# Altium schematic symbol library WE-HEPA.SchLib: 16 symbols
Pins are listed as number, name and electrical type; pins without a type are passive.

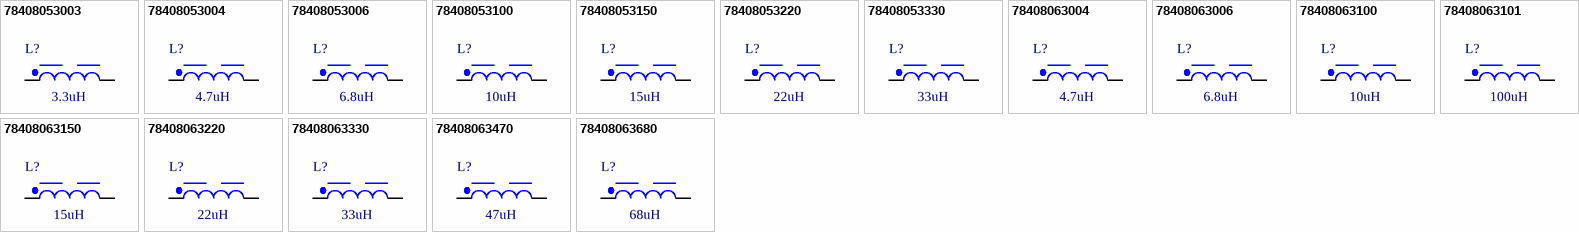
[diagram p0: symbols 78408053003 to 78408063680]

## 78408053003
designator L?, comment 3.3uH
WE-HEPA High Efficiency Power Choke, SMT, size 5030, 3.3uH, 2A; Manufacturer Part Number: 78408053003; Manufacturer: Wurth Elektronik; Case/Size Code: 5030; DC Resistance Max: 75mOhm; Inductance Tolerance: +/-25%; Saturation Current: 2.3A; Self Resonant Frequency: 100MHz; Category: Power Inductors; Match Code: WE-HEPA; ComponentLink1Description: Website Link; ComponentLink1URL: https://www.we-online.com/redexpert/article/78408053003?ad; ComponentLink2Description: Datasheet Link; ComponentLink2URL: https://www.we-online.com/redexpert/spec/78408053003?ad; Mount: Surface Mount; Operating Temperature Max: 150°C; Operating Temperature Min: -40°C; Packaging: Tape and Reel; Length: 4.9mm; Width: 4.9mm; Height: 2.85mm; Inductance: 3.3uH; Rated Current: 2A
footprint WE-HEPA_5030
simulation model 5030_78408053003_3.3u
pins: 1, 2

## 78408053004
designator L?, comment 4.7uH
WE-HEPA High Efficiency Power Choke, SMT, size 5030, 4.7uH, 1.4A; Manufacturer Part Number: 78408053004; Manufacturer: Wurth Elektronik; Case/Size Code: 5030; DC Resistance Max: 100mOhm; Inductance Tolerance: +/-20%; Saturation Current: 2.1A; Self Resonant Frequency: 85MHz; Category: Power Inductors; Match Code: WE-HEPA; ComponentLink1Description: Website Link; ComponentLink1URL: https://www.we-online.com/redexpert/article/78408053004?ad; ComponentLink2Description: Datasheet Link; ComponentLink2URL: https://www.we-online.com/redexpert/spec/78408053004?ad; Mount: Surface Mount; Operating Temperature Max: 150°C; Operating Temperature Min: -40°C; Packaging: Tape and Reel; Length: 4.9mm; Width: 4.9mm; Height: 2.85mm; Inductance: 4.7uH; Rated Current: 1.4A
footprint WE-HEPA_5030
simulation model 5030_78408053004_4.7u
pins: 1, 2

## 78408053006
designator L?, comment 6.8uH
WE-HEPA High Efficiency Power Choke, SMT, size 5030, 6.8uH, 1.3A; Manufacturer Part Number: 78408053006; Manufacturer: Wurth Elektronik; Case/Size Code: 5030; DC Resistance Max: 125mOhm; Inductance Tolerance: +/-20%; Saturation Current: 2A; Self Resonant Frequency: 60MHz; Category: Power Inductors; Match Code: WE-HEPA; ComponentLink1Description: Website Link; ComponentLink1URL: https://www.we-online.com/redexpert/article/78408053006?ad; ComponentLink2Description: Datasheet Link; ComponentLink2URL: https://www.we-online.com/redexpert/spec/78408053006?ad; Mount: Surface Mount; Operating Temperature Max: 150°C; Operating Temperature Min: -40°C; Packaging: Tape and Reel; Length: 4.9mm; Width: 4.9mm; Height: 2.85mm; Inductance: 6.8uH; Rated Current: 1.3A
footprint WE-HEPA_5030
simulation model 5030_78408053006_6.8u
pins: 1, 2

## 78408053100
designator L?, comment 10uH
WE-HEPA High Efficiency Power Choke, SMT, size 5030, 10uH, 1.2A; Manufacturer Part Number: 78408053100; Manufacturer: Wurth Elektronik; Case/Size Code: 5030; DC Resistance Max: 140mOhm; Inductance Tolerance: +/-20%; Saturation Current: 1.3A; Self Resonant Frequency: 37MHz; Category: Power Inductors; Match Code: WE-HEPA; ComponentLink1Description: Website Link; ComponentLink1URL: https://www.we-online.com/redexpert/article/78408053100?ad; ComponentLink2Description: Datasheet Link; ComponentLink2URL: https://www.we-online.com/redexpert/spec/78408053100?ad; Mount: Surface Mount; Operating Temperature Max: 150°C; Operating Temperature Min: -40°C; Packaging: Tape and Reel; Length: 4.9mm; Width: 4.9mm; Height: 2.85mm; Inductance: 10uH; Rated Current: 1.2A
footprint WE-HEPA_5030
simulation model 5030_78408053100_10u
pins: 1, 2

## 78408053150
designator L?, comment 15uH
WE-HEPA High Efficiency Power Choke, SMT, size 5030, 15uH, 1.1A; Manufacturer Part Number: 78408053150; Manufacturer: Wurth Elektronik; Case/Size Code: 5030; DC Resistance Max: 200mOhm; Inductance Tolerance: +/-20%; Saturation Current: 1.2A; Self Resonant Frequency: 22MHz; Category: Power Inductors; Match Code: WE-HEPA; ComponentLink1Description: Website Link; ComponentLink1URL: https://www.we-online.com/redexpert/article/78408053150?ad; ComponentLink2Description: Datasheet Link; ComponentLink2URL: https://www.we-online.com/redexpert/spec/78408053150?ad; Mount: Surface Mount; Operating Temperature Max: 150°C; Operating Temperature Min: -40°C; Packaging: Tape and Reel; Length: 4.9mm; Width: 4.9mm; Height: 2.85mm; Inductance: 15uH; Rated Current: 1.1A
footprint WE-HEPA_5030
simulation model 5030_78408053150_15u
pins: 1, 2

## 78408053220
designator L?, comment 22uH
WE-HEPA High Efficiency Power Choke, SMT, size 5030, 22uH, 0.9A; Manufacturer Part Number: 78408053220; Manufacturer: Wurth Elektronik; Case/Size Code: 5030; DC Resistance Max: 270mOhm; Inductance Tolerance: +/-20%; Saturation Current: 0.8A; Self Resonant Frequency: 20MHz; Category: Power Inductors; Match Code: WE-HEPA; ComponentLink1Description: Website Link; ComponentLink1URL: https://www.we-online.com/redexpert/article/78408053220?ad; ComponentLink2Description: Datasheet Link; ComponentLink2URL: https://www.we-online.com/redexpert/spec/78408053220?ad; Mount: Surface Mount; Operating Temperature Max: 150°C; Operating Temperature Min: -40°C; Packaging: Tape and Reel; Length: 4.9mm; Width: 4.9mm; Height: 2.85mm; Inductance: 22uH; Rated Current: 0.9A
footprint WE-HEPA_5030
simulation model 5030_78408053220_22u
pins: 1, 2

## 78408053330
designator L?, comment 33uH
WE-HEPA High Efficiency Power Choke, SMT, size 5030, 33uH, 0.8A; Manufacturer Part Number: 78408053330; Manufacturer: Wurth Elektronik; Case/Size Code: 5030; DC Resistance Max: 415mOhm; Inductance Tolerance: +/-20%; Saturation Current: 0.7A; Self Resonant Frequency: 15MHz; Category: Power Inductors; Match Code: WE-HEPA; ComponentLink1Description: Website Link; ComponentLink1URL: https://www.we-online.com/redexpert/article/78408053330?ad; ComponentLink2Description: Datasheet Link; ComponentLink2URL: https://www.we-online.com/redexpert/spec/78408053330?ad; Mount: Surface Mount; Operating Temperature Max: 150°C; Operating Temperature Min: -40°C; Packaging: Tape and Reel; Length: 4.9mm; Width: 4.9mm; Height: 2.85mm; Inductance: 33uH; Rated Current: 0.8A
footprint WE-HEPA_5030
simulation model 5030_78408053330_33u
pins: 1, 2

## 78408063004
designator L?, comment 4.7uH
WE-HEPA High Efficiency Power Choke, SMT, size 6030, 4.7uH, 2A; Manufacturer Part Number: 78408063004; Manufacturer: Wurth Elektronik; Case/Size Code: 6030; DC Resistance Max: 90mOhm; Inductance Tolerance: +/-20%; Saturation Current: 2.5A; Self Resonant Frequency: 75MHz; Category: Power Inductors; Match Code: WE-HEPA; ComponentLink1Description: Website Link; ComponentLink1URL: https://www.we-online.com/redexpert/article/78408063004?ad; ComponentLink2Description: Datasheet Link; ComponentLink2URL: https://www.we-online.com/redexpert/spec/78408063004?ad; Mount: Surface Mount; Operating Temperature Max: 150°C; Operating Temperature Min: -40°C; Packaging: Tape and Reel; Length: 5.9mm; Width: 5.9mm; Height: 2.85mm; Inductance: 4.7uH; Rated Current: 2A
footprint WE-HEPA_6030
simulation model 6030_78408063004_4.7u
pins: 1, 2

## 78408063006
designator L?, comment 6.8uH
WE-HEPA High Efficiency Power Choke, SMT, size 6030, 6.8uH, 1.8A; Manufacturer Part Number: 78408063006; Manufacturer: Wurth Elektronik; Case/Size Code: 6030; DC Resistance Max: 100mOhm; Inductance Tolerance: +/-20%; Saturation Current: 2.2A; Self Resonant Frequency: 40MHz; Category: Power Inductors; Match Code: WE-HEPA; ComponentLink1Description: Website Link; ComponentLink1URL: https://www.we-online.com/redexpert/article/78408063006?ad; ComponentLink2Description: Datasheet Link; ComponentLink2URL: https://www.we-online.com/redexpert/spec/78408063006?ad; Mount: Surface Mount; Operating Temperature Max: 150°C; Operating Temperature Min: -40°C; Packaging: Tape and Reel; Length: 5.9mm; Width: 5.9mm; Height: 2.85mm; Inductance: 6.8uH; Rated Current: 1.8A
footprint WE-HEPA_6030
simulation model 6030_78408063006_6.8u
pins: 1, 2

## 78408063100
designator L?, comment 10uH
WE-HEPA High Efficiency Power Choke, SMT, size 6030, 10uH, 1.35A; Manufacturer Part Number: 78408063100; Manufacturer: Wurth Elektronik; Case/Size Code: 6030; DC Resistance Max: 140mOhm; Inductance Tolerance: +/-20%; Saturation Current: 1.6A; Self Resonant Frequency: 27MHz; Category: Power Inductors; Match Code: WE-HEPA; ComponentLink1Description: Website Link; ComponentLink1URL: https://www.we-online.com/redexpert/article/78408063100?ad; ComponentLink2Description: Datasheet Link; ComponentLink2URL: https://www.we-online.com/redexpert/spec/78408063100?ad; Mount: Surface Mount; Operating Temperature Max: 150°C; Operating Temperature Min: -40°C; Packaging: Tape and Reel; Length: 5.9mm; Width: 5.9mm; Height: 2.85mm; Inductance: 10uH; Rated Current: 1.35A
footprint WE-HEPA_6030
simulation model 6030_78408063100_10u
pins: 1, 2

## 78408063101
designator L?, comment 100uH
WE-HEPA High Efficiency Power Choke, SMT, size 6030, 100uH, 0.5A; Manufacturer Part Number: 78408063101; Manufacturer: Wurth Elektronik; Case/Size Code: 6030; DC Resistance Max: 850mOhm; Inductance Tolerance: +/-20%; Self Resonant Frequency: 8MHz; Category: Power Inductors; Match Code: WE-HEPA; ComponentLink1Description: Website Link; ComponentLink1URL: https://www.we-online.com/redexpert/article/78408063101?ad; ComponentLink2Description: Datasheet Link; ComponentLink2URL: https://www.we-online.com/redexpert/spec/78408063101?ad; Mount: Surface Mount; Operating Temperature Max: 150°C; Operating Temperature Min: -40°C; Packaging: Tape and Reel; Length: 5.9mm; Width: 5.9mm; Height: 2.85mm; Inductance: 100uH; Rated Current: 0.5A; Saturation Current: 0.5A
footprint WE-HEPA_6030
simulation model 6030_78408063101_100u
pins: 1, 2

## 78408063150
designator L?, comment 15uH
WE-HEPA High Efficiency Power Choke, SMT, size 6030, 15uH, 1.2A; Manufacturer Part Number: 78408063150; Manufacturer: Wurth Elektronik; Case/Size Code: 6030; DC Resistance Max: 180mOhm; Inductance Tolerance: +/-20%; Saturation Current: 1.4A; Self Resonant Frequency: 20MHz; Category: Power Inductors; Match Code: WE-HEPA; ComponentLink1Description: Website Link; ComponentLink1URL: https://www.we-online.com/redexpert/article/78408063150?ad; ComponentLink2Description: Datasheet Link; ComponentLink2URL: https://www.we-online.com/redexpert/spec/78408063150?ad; Mount: Surface Mount; Operating Temperature Max: 150°C; Operating Temperature Min: -40°C; Packaging: Tape and Reel; Length: 5.9mm; Width: 5.9mm; Height: 2.85mm; Inductance: 15uH; Rated Current: 1.2A
footprint WE-HEPA_6030
simulation model 6030_78408063150_15u
pins: 1, 2

## 78408063220
designator L?, comment 22uH
WE-HEPA High Efficiency Power Choke, SMT, size 6030, 22uH, 1A; Manufacturer Part Number: 78408063220; Manufacturer: Wurth Elektronik; Case/Size Code: 6030; DC Resistance Max: 220mOhm; Inductance Tolerance: +/-20%; Saturation Current: 1.1A; Self Resonant Frequency: 18MHz; Category: Power Inductors; Match Code: WE-HEPA; ComponentLink1Description: Website Link; ComponentLink1URL: https://www.we-online.com/redexpert/article/78408063220?ad; ComponentLink2Description: Datasheet Link; ComponentLink2URL: https://www.we-online.com/redexpert/spec/78408063220?ad; Mount: Surface Mount; Operating Temperature Max: 150°C; Operating Temperature Min: -40°C; Packaging: Tape and Reel; Length: 5.9mm; Width: 5.9mm; Height: 2.85mm; Inductance: 22uH; Rated Current: 1A
footprint WE-HEPA_6030
simulation model 6030_78408063220_22u
pins: 1, 2

## 78408063330
designator L?, comment 33uH
WE-HEPA High Efficiency Power Choke, SMT, size 6030, 33uH, 0.9A; Manufacturer Part Number: 78408063330; Manufacturer: Wurth Elektronik; Case/Size Code: 6030; DC Resistance Max: 285mOhm; Inductance Tolerance: +/-20%; Self Resonant Frequency: 15MHz; Category: Power Inductors; Match Code: WE-HEPA; ComponentLink1Description: Website Link; ComponentLink1URL: https://www.we-online.com/redexpert/article/78408063330?ad; ComponentLink2Description: Datasheet Link; ComponentLink2URL: https://www.we-online.com/redexpert/spec/78408063330?ad; Mount: Surface Mount; Operating Temperature Max: 150°C; Operating Temperature Min: -40°C; Packaging: Tape and Reel; Length: 5.9mm; Width: 5.9mm; Height: 2.85mm; Inductance: 33uH; Rated Current: 0.9A; Saturation Current: 0.9A
footprint WE-HEPA_6030
simulation model 6030_78408063330_33u
pins: 1, 2

## 78408063470
designator L?, comment 47uH
WE-HEPA High Efficiency Power Choke, SMT, size 6030, 47uH, 0.8A; Manufacturer Part Number: 78408063470; Manufacturer: Wurth Elektronik; Case/Size Code: 6030; DC Resistance Max: 385mOhm; Inductance Tolerance: +/-20%; Self Resonant Frequency: 11MHz; Category: Power Inductors; Match Code: WE-HEPA; ComponentLink1Description: Website Link; ComponentLink1URL: https://www.we-online.com/redexpert/article/78408063470?ad; ComponentLink2Description: Datasheet Link; ComponentLink2URL: https://www.we-online.com/redexpert/spec/78408063470?ad; Mount: Surface Mount; Operating Temperature Max: 150°C; Operating Temperature Min: -40°C; Packaging: Tape and Reel; Length: 5.9mm; Width: 5.9mm; Height: 2.85mm; Inductance: 47uH; Rated Current: 0.8A; Saturation Current: 0.8A
footprint WE-HEPA_6030
simulation model 6030_78408063470_47u
pins: 1, 2

## 78408063680
designator L?, comment 68uH
WE-HEPA High Efficiency Power Choke, SMT, size 6030, 68uH, 0.6A; Manufacturer Part Number: 78408063680; Manufacturer: Wurth Elektronik; Case/Size Code: 6030; DC Resistance Max: 535mOhm; Inductance Tolerance: +/-20%; Saturation Current: 0.7A; Self Resonant Frequency: 9MHz; Category: Power Inductors; Match Code: WE-HEPA; ComponentLink1Description: Website Link; ComponentLink1URL: https://www.we-online.com/redexpert/article/78408063680?ad; ComponentLink2Description: Datasheet Link; ComponentLink2URL: https://www.we-online.com/redexpert/spec/78408063680?ad; Mount: Surface Mount; Operating Temperature Max: 150°C; Operating Temperature Min: -40°C; Packaging: Tape and Reel; Length: 5.9mm; Width: 5.9mm; Height: 2.85mm; Inductance: 68uH; Rated Current: 0.6A
footprint WE-HEPA_6030
simulation model 6030_78408063680_68u
pins: 1, 2